# Altium footprint library Misc PTH.PcbLib: 31 footprints (part 1 of 2)
Each footprint in its own frame and in the unit in brackets; x right, y up, seen from the top. Pads: shape width x height; smd on the part's side, far side on the other; paste and mask are expansions set on the pad; w line width, h text height; cw(c..) or ccw(c..) is an arc to the next point about the centre after c.
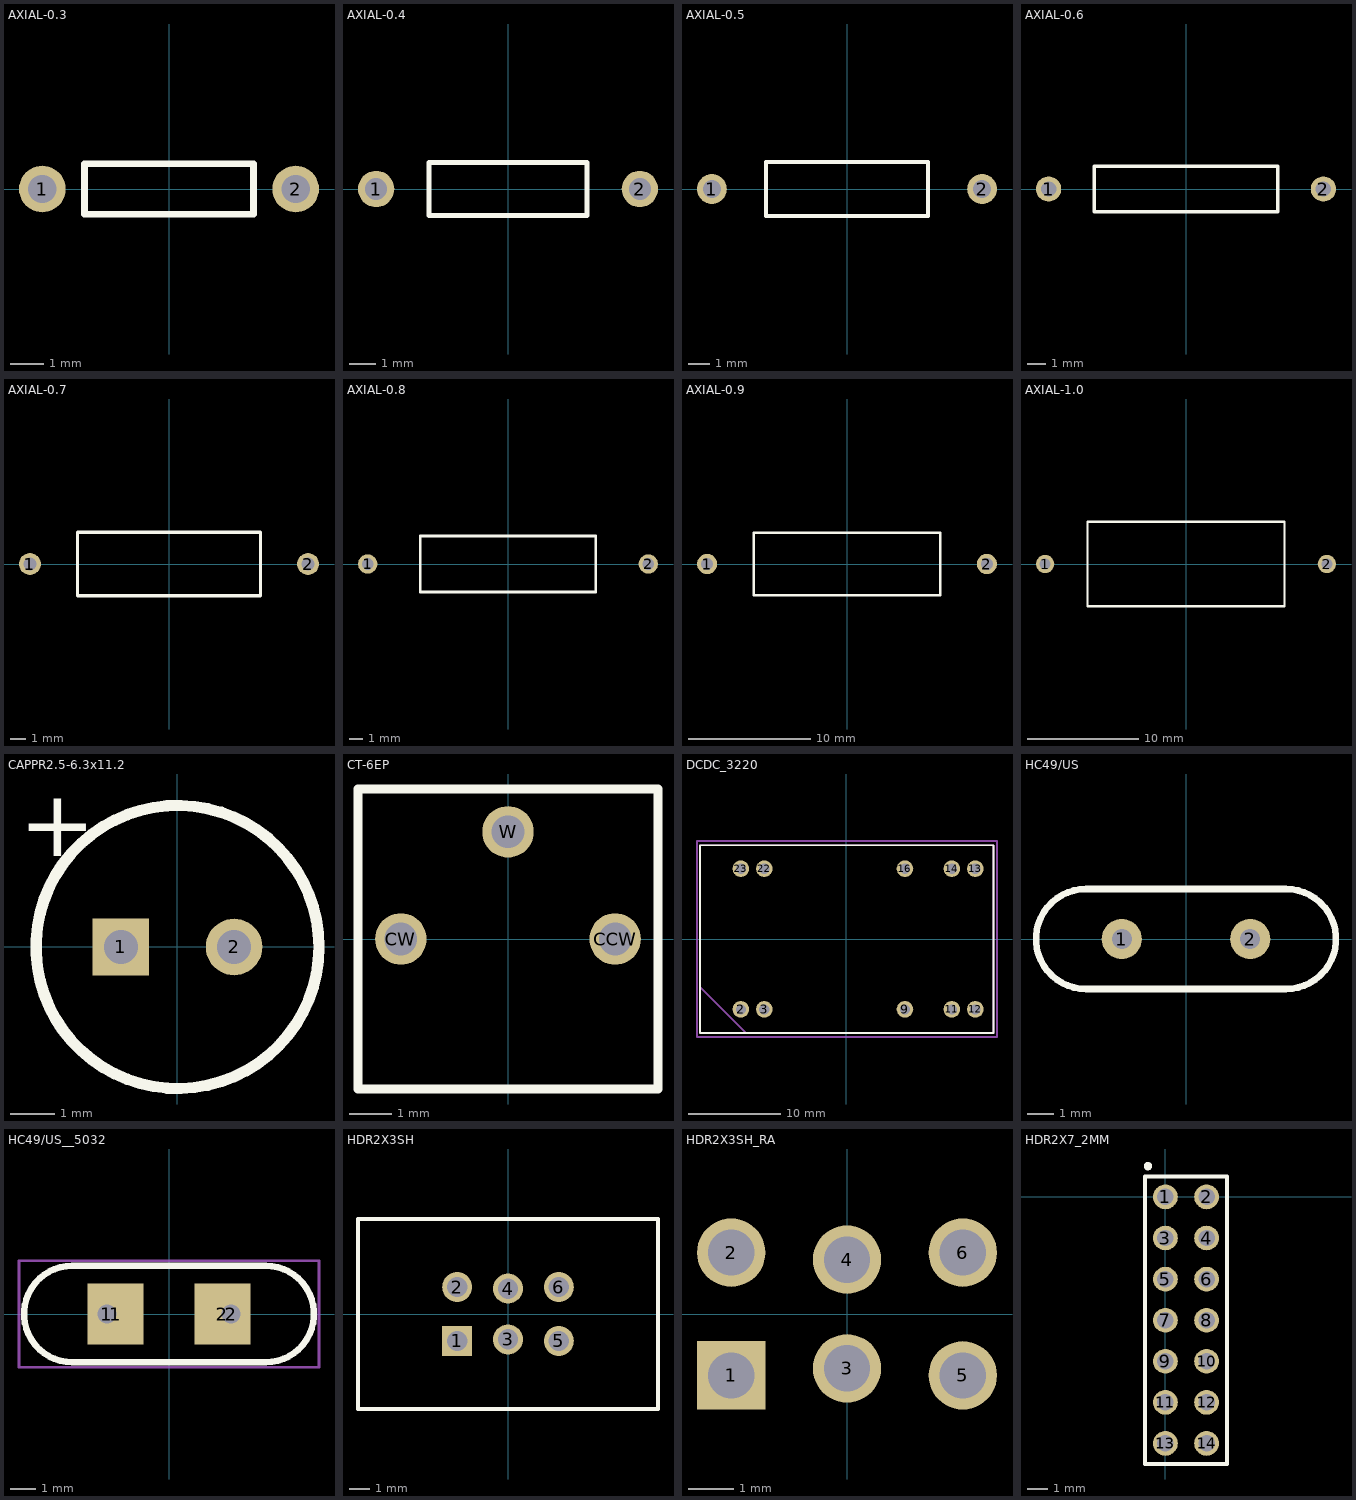
[diagram p0: the footprints below, top view; thin cyan lines are the x and y axes]

## AXIAL-0.3 [mm] "Axial Device, Thru-Hole; 2 Leads; 0.3 in Pin Spacing"
height 1.524
pads (2):
  round 1.4 hole 0.85: 1(-3.81,0) 2(3.81,0)
Top Overlay:
  lines w0.2: -2.54,-0.762 -2.54,0.762 2.54,0.762 2.54,0 2.54,-0.762 -2.54,-0.762

## AXIAL-0.4 [mm] "Axial Device, Thru-Hole; 2 Leads; 0.4 in Pin Spacing"
height 2.032
pads (2):
  round 1.4 hole 0.85: 1(-5.08,0) 2(5.08,0)
Top Overlay:
  lines w0.2: -3.048,-1.016 -3.048,1.016 3.048,1.016 3.048,-1.016 -3.048,-1.016

## AXIAL-0.5 [mm] "Axial Device, Thru-Hole; 2 Leads; 0.5 in Pin Spacing"
height 2.54
pads (2):
  round 1.4 hole 0.85: 1(-6.35,0) 2(6.35,0)
Top Overlay:
  lines w0.2: -3.81,-1.27 3.81,-1.27 3.81,1.27 -3.81,1.27 -3.81,-1.27

## AXIAL-0.6 [mm] "Axial Device, Thru-Hole; 2 Leads; 0.6 in Pin Spacing"
height 2.54
pads (2):
  round 1.4 hole 0.85: 1(-7.62,0) 2(7.62,0)
Top Overlay:
  lines w0.2: -5.08,-1.27 -5.08,1.27 5.08,1.27 5.08,-1.27 -5.08,-1.27

## AXIAL-0.7 [mm] "Axial Device, Thru-Hole; 2 Leads; 0.7 in Pin Spacing"
height 4.064
pads (2):
  round 1.4 hole 0.85: 1(-8.89,0) 2(8.89,0)
Top Overlay:
  lines w0.2: -5.842,-2.032 5.842,-2.032 5.842,2.032 -5.842,2.032 -5.842,-2.032

## AXIAL-0.8 [mm] "Axial Device, Thru-Hole; 2 Leads; 0.8 in Pin Spacing"
height 4.064
pads (2):
  round 1.4 hole 0.85: 1(-10.16,0) 2(10.16,0)
Top Overlay:
  lines w0.2: -6.35,-2.032 6.35,-2.032 6.35,2.032 -6.35,2.032 -6.35,-2.032

## AXIAL-0.9 [mm] "Axial Device, Thru-Hole; 2 Leads; 0.9 in Pin Spacing"
height 5.08
pads (2):
  round 1.65 hole 1: 1(-11.43,0) 2(11.43,0)
Top Overlay:
  lines w0.2: -7.62,-2.54 -7.62,2.54 7.62,2.54 7.62,-2.54 -7.62,-2.54

## AXIAL-1.0 [mm] "Axial Device, Thru-Hole; 2 Leads; 1.0 in Pin Spacing"
height 7.62
pads (2):
  round 1.65 hole 1: 1(-12.7,0) 2(12.7,0)
Top Overlay:
  lines w0.2: -8.89,-3.81 8.89,-3.81 8.89,3.81 -8.89,3.81 -8.89,-3.81

## CAPPR2.5-6.3x11.2 [mil] "Capacitor, Electrolytic, Radial; Body 6.3 x 11.2 mm (Dia.xH typ); Pin Spacing 2.5 mm (typ)"
height 440.94
pads (2):
  rect 50x50 hole 30: 1(-50,0)
  round 50 hole 30: 2(50,0)
Top Overlay:
  circle w10: c0,0 r125
  text "+" at -140,80 h59.06

## CT-6EP [mm] "Trimmer Potentiometer (Copal)"
height 5.8
pads (3):
  round 1.2 hole 0.762: CCW(2.5,0) CW(-2.5,0) W(0,2.5)
Top Overlay:
  lines w0.2: -3.5,-3.5 -3.5,3.5 3.5,3.5 3.5,-3.5 -3.5,-3.5

## DCDC_3220 [mm]
pads (10):
  round 1.8 hole 1.1: 2(-11.43,-7.62) 3(-8.89,-7.62) 9(6.35,-7.62) 11(11.43,-7.62) 12(13.97,-7.62) 13(13.97,7.62) 14(11.43,7.62) 16(6.35,7.62) 22(-8.89,7.62) 23(-11.43,7.62)
Top Overlay:
  lines w0.2: -15.87,-10.16 15.93,-10.16 15.93,10.16 -15.87,10.16 -15.87,-10.16
Assembly:
  lines w0.2: -15.87,-5.18 -15.87,10.16 15.93,10.16 15.93,-10.16 -10.89,-10.16 -15.87,-5.18
Courtyard:
  lines w0.2: -16.18,-10.62 16.32,-10.62 16.32,10.63 -16.18,10.63 -16.18,-10.62
3D body: height 10.2, standoff 0, extent -15.87,-10.16 15.93,10.16

## HC49/US [mil] "Low-profile crystal resonator"
height 137.8
pads (2):
  round 60 hole 30: 1(-96.06,0) 2(96.06,0)
Top Overlay:
  lines w10: -149.61,-74.8 cw(c-149.61,0) -149.61,74.8 149.61,74.8 cw(c149.61,0) 149.61,-74.8 -149.61,-74.8
3D body: height 144.88, standoff -78.74, extent -250,-96.85 250,100

## HC49/US__5032 [mm] "Low-profile crystal resonator"
height 3.5
pads (4):
  round 1.524 hole 0.762: 1(-2.44,0) 2(2.44,0)
  rect 2.2x2.4 smd paste-0.4: 1(-2.1,0) 2(2.1,0)
Top Overlay:
  lines w0.254: -3.8,-1.9 cw(c-3.8,0) -3.8,1.9 3.8,1.9 cw(c3.8,0) 3.8,-1.9 -3.8,-1.9
Courtyard:
  lines w0.1: -5.9,-2.1 5.9,-2.1 5.9,2.1 -5.9,2.1 -5.9,-2.1
3D body: height 1.3, standoff 0, extent -2.5,-1.6 2.5,1.6

## HDR2X3SH [mm] "Connector; Header; 3x2 Position"
pads (6):
  rect 1.5x1.5 hole 1.016: 1(-2.54,-1.347)
  round 1.5 hole 1.016: 2(-2.54,1.347) 3(0,-1.27) 4(0,1.27) 5(2.54,-1.347) 6(2.54,1.347)
Top Overlay:
  lines w0.2: -7.5,-4.75 7.5,-4.75 7.5,4.75 -7.5,4.75 -7.5,-4.75

## HDR2X3SH_RA [mm] "Connector; Header; 3x2 Position; Right-Angle; Shrouded"
pads (6):
  rect 1.5x1.5 hole 1.016: 1(-2.54,-1.347)
  round 1.5 hole 1.016: 2(-2.54,1.347) 3(0,-1.193) 4(0,1.193) 5(2.54,-1.347) 6(2.54,1.347)
3D body: height 9.25, standoff -3.15, extent -7.62,-1.6 7.62,10.92

## HDR2X7_2MM [mm]
pads (14):
  round 1.2 hole 0.8: 1(0,0) 2(2,0) 3(0,-2) 4(2,-2) 5(0,-4) 6(2,-4) 7(0,-6) 8(2,-6) 9(0,-8) 10(2,-8) 11(0,-10) 12(2,-10) 13(0,-12) 14(2,-12)
Top Overlay:
  circle w0.2: c-0.853,1.5 r0.103
  lines w0.2: -1,-13 -1,1 3,1 3,-13 -1,-13